# Altium footprint library 43025-0200-Footprint-1.PcbLib: 1 footprints
Each footprint in its own frame and in the unit in brackets; x right, y up, seen from the top. Pads: shape width x height; smd on the part's side, far side on the other; paste and mask are expansions set on the pad; w line width, h text height; cw(c..) or ccw(c..) is an arc to the next point about the centre after c.

## 43025-0200-Footprint-1 [mm]
3D body "430250200.stp": height 4.13, standoff -6.7, extent -2.137,-6.032 3.143,7.968